# EAGLE library part MCP3304C/SL (library xess)
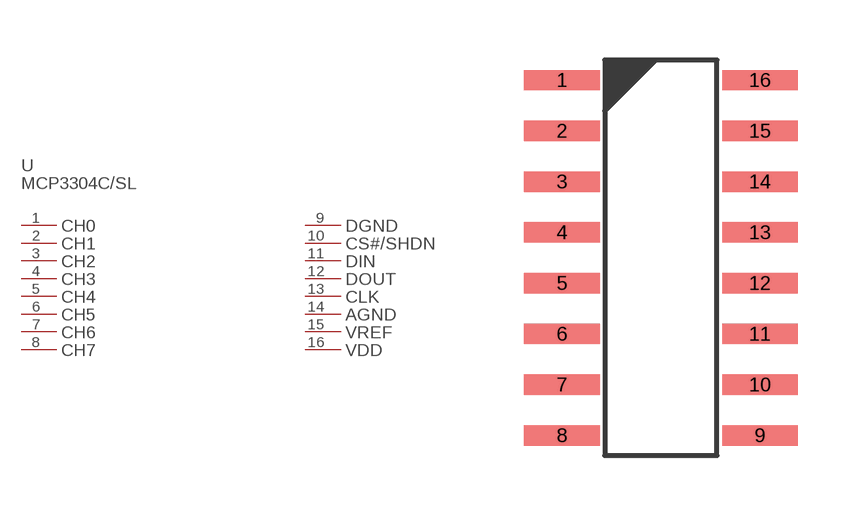
[diagram p114: symbol with the pads of MCP3304C/SL; footprint MCP3304C/SL]

Designator prefix U; gates PART_VALUE=PART_VALUE-MCP3304C/SL CH0=PL-MCP3304C/SL CH1=PL-MCP3304C/SL CH2=PL-MCP3304C/SL CH3=PL-MCP3304C/SL CH4=PL-MCP3304C/SL CH5=PL-MCP3304C/SL CH6=PL-MCP3304C/SL CH7=PL-MCP3304C/SL DGND=PL-MCP3304C/SL CS#/SHDN=PL-MCP3304C/SL DIN=PL-MCP3304C/SL DOUT=PL-MCP3304C/SL CLK=PL-MCP3304C/SL AGND=PL-MCP3304C/SL VREF=PL-MCP3304C/SL VDD=PL-MCP3304C/SL

## MCP3304C/SL  [MCP3304C/SL]
1  CH0:P$1
2  CH1:P$1
3  CH2:P$1
4  CH3:P$1
5  CH4:P$1
6  CH5:P$1
7  CH6:P$1
8  CH7:P$1
9  DGND:P$1
10  CS#/SHDN:P$1
11  DIN:P$1
12  DOUT:P$1
13  CLK:P$1
14  AGND:P$1
15  VREF:P$1
16  VDD:P$1

## Footprint MCP3304C/SL (pad centres in mm)
smd 1.89 x 0.51: 1 -0.11,0; 2 -0.11,-1.27; 3 -0.11,-2.54; 4 -0.11,-3.81; 5 -0.11,-5.08; 6 -0.11,-6.35; 7 -0.11,-7.62; 8 -0.11,-8.89; 9 4.84,-8.89; 10 4.84,-7.62; 11 4.84,-6.35; 12 4.84,-5.08; 13 4.84,-3.81; 14 4.84,-2.54; 15 4.84,-1.27; 16 4.84,0